# Altium schematic symbol library leds.SchLib: 1 symbol
Pins are listed as number, name and electrical type; pins without a type are passive.

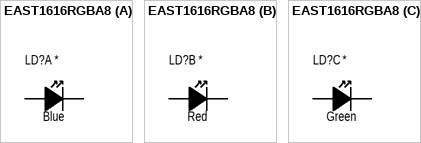
[diagram p0: symbol EAST1616RGBA8]

## EAST1616RGBA8
designator LD?
part A pins: 1, 2
part B pins: 3, 4
part C pins: 5, 6
part A text: Blue
part B text: Red
part C text: Green